# EAGLE library part MOTOR (library MARK)
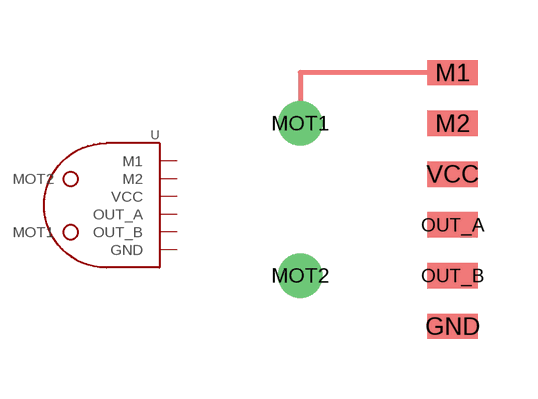
[diagram p1: symbol with the pads of MOTOR; footprint MOTOR]

Designator prefix -

## MOTOR  [MOTOR]
GND  GND
M1  M1
M2  M2
MOT1  MOT1
MOT2  MOT2
OUT_A  OUT_A
OUT_B  OUT_B
VCC  VCC

## Footprint MOTOR (pad centres in mm)
smd 1.27 x 0.635: GND 2.54,-5.08; M1 2.54,1.27; M2 2.54,0; OUT_A 2.54,-2.54; OUT_B 2.54,-3.81; VCC 2.54,-1.27
drill 0.6: MOT1 -1.27,0; MOT2 -1.27,-3.81